# EAGLE library part RICHTEK_TECHNOLOGY_CORPORATION_RT4812GJ8F (library Upverter Library)
High Efficiency Boost Converter
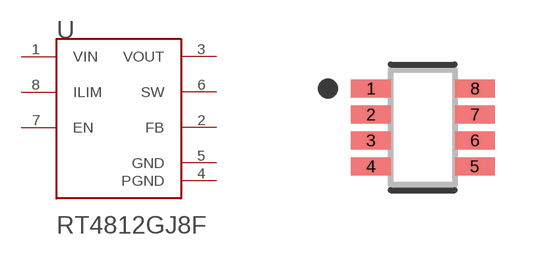
[diagram p0: symbol with the pads of RICHTEK_TECHNOLOGY_CORPORATION_RT4812GJ8F_0; footprint RICHTEK_TECHNOLOGY_CORPORATION_RT4812GJ8F_0]

Designator prefix U

## RICHTEK_TECHNOLOGY_CORPORATION_RT4812GJ8FRICHTEK_TECHNOLOGY_CORPORATION_RT4812GJ8F_0_0 (Current_-_Output: 2A; Frequency_-_Switching: 500kHz; MF: Richtek Technology Corporation; MPN: RT4812GJ8F; Voltage_-_Input: 1.8V ~ 5.5V; Voltage_-_Output: 1.8V ~ 5.5V; centroid_not_specified: No; datasheet: http://www.richtek.com/assets/product_file/RT4812/DS4812-04.pdf; digikey_description: IC Boost Switching Regulator IC Positive Adjustable 1.8V 1 Output 2A SOT-23-8 Thin, TSOT-23-8; digikey_part_number: RT4812GJ8FCT-ND; ipc_land_pattern_name: SOT65P280X85-8; lead_free: yes; mfg_package_ident: FC; package: TSOT23-8; prefix: U; rohs: yes; temperature_range_high: +85°C; temperature_range_low: -40°C)  [RICHTEK_TECHNOLOGY_CORPORATION_RT4812GJ8F_0]
1  VIN  pwr
2  FB  in
3  VOUT  out
4  PGND  pwr
5  GND  pwr
6  SW  out
7  EN  in
8  ILIM  in

## Footprint RICHTEK_TECHNOLOGY_CORPORATION_RT4812GJ8F_0 (pad centres in mm)
High Efficiency Boost Converter
smd 1 x 0.45: 1 -1.3,0.975; 2 -1.3,0.325; 3 -1.3,-0.325; 4 -1.3,-0.975; 5 1.3,-0.975; 6 1.3,-0.325; 7 1.3,0.325; 8 1.3,0.975